# EAGLE library part FFC/FPC/34PIN/1MMPITCH/TOPLOCK (library FracktalWorks)
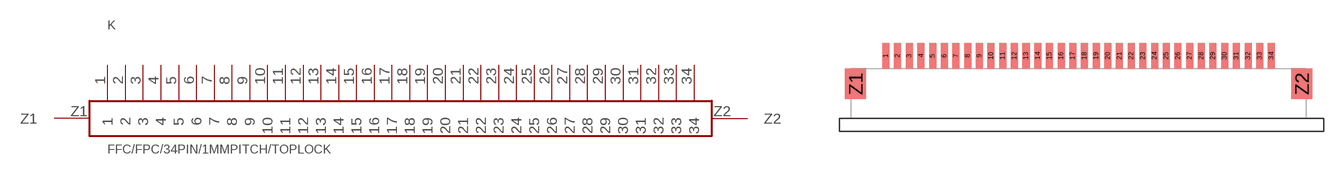
[diagram p0: symbol with the pads of FFC/FPC/34PIN/1MMPITCH/TOPLOCK; footprint FFC/FPC/34PIN/1MMPITCH/TOPLOCK]

Designator prefix K

## FFC/FPC/34PIN/1MMPITCH/TOPLOCK  [FFC/FPC/34PIN/1MMPITCH/TOPLOCK]
1  1
2  2
3  3
4  4
5  5
6  6
7  7
8  8
9  9
10  10
11  11
12  12
13  13
14  14
15  15
16  16
17  17
18  18
19  19
20  20
21  21
22  22
23  23
24  24
25  25
26  26
27  27
28  28
29  29
30  30
31  31
32  32
33  33
34  34
Z1  Z1
Z2  Z2

## Footprint FFC/FPC/34PIN/1MMPITCH/TOPLOCK (pad centres in mm)
WR-FPC 1.00mm SMT ZIF Horizontal Bottom Contact, 30 Pins
smd 0.6 x 2.2: 1 -14.43,2.1; 2 -13.43,2.1; 3 -12.43,2.1; 4 -11.43,2.1; 5 -10.43,2.1; 6 -9.43,2.1; 7 -8.43,2.1; 8 -7.43,2.1; 9 -6.43,2.1; 10 -5.43,2.1; 11 -4.43,2.1; 12 -3.43,2.1; 13 -2.43,2.1; 14 -1.43,2.1; 15 -0.43,2.1; 16 0.57,2.1; 17 1.57,2.1; 18 2.57,2.1; 19 3.57,2.1; 20 4.57,2.1; 21 5.57,2.1; 22 6.57,2.1; 23 7.57,2.1; 24 8.57,2.1; 25 9.57,2.1; 26 10.57,2.1; 27 11.57,2.1; 28 12.57,2.1; 29 13.57,2.1; 30 14.57,2.1; 31 15.57,2.1; 32 16.57,2.1; 33 17.57,2.1; 34 18.57,2.1
smd 1.8 x 2.6: Z1 -17.03,-0.3; Z2 21.17,-0.3